# Altium footprint library Bridge Rectifiers.PcbLib: 37 footprints (part 3 of 3)
Each footprint in its own frame and in the unit in brackets; x right, y up, seen from the top. Pads: shape width x height; smd on the part's side, far side on the other; paste and mask are expansions set on the pad; w line width, h text height; cw(c..) or ccw(c..) is an arc to the next point about the centre after c.
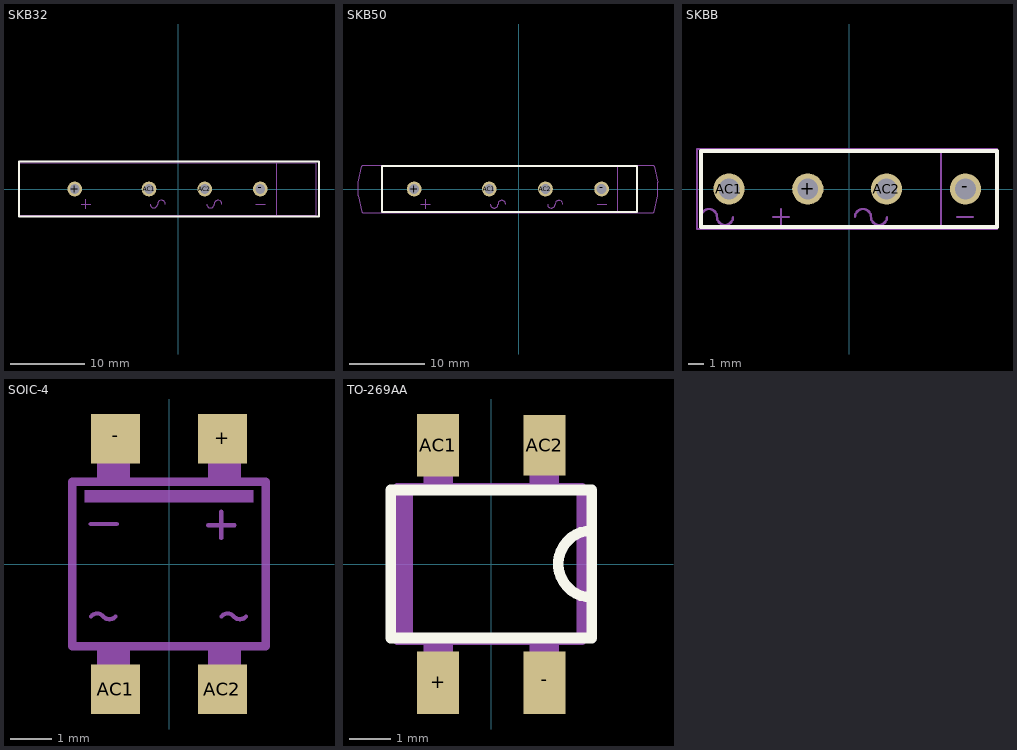
[diagram p2: the footprints below, top view; thin cyan lines are the x and y axes]

## SKB32 [mil]
pads (4):
  round 78 / inner round 60 / far side round 78 hole 52: +(-550,0) -(434,0) AC1(-156,0) AC2(139,0)
Top Overlay:
  lines w10: -845,-145 -845,145 745,145 745,-145 -845,-145
Mechanical 22:
  lines w6: -515,-80 -465,-80 ; -490,-105 -490,-55 ; -150,-80 ccw(c-130,-80) -110,-80 cw(c-90,-80) -70,-80 ; 150,-80 ccw(c170,-80) 190,-80 cw(c210,-80) 230,-80 ; 410,-80 460,-80 ; 520,-140 730,-140 730,140 520,140 ; 520,-140 520,140 ; 520,-140 -845,-140 -845,140 520,140

## SKB50 [mil]
pads (4):
  round 78 / inner round 60 / far side round 78 hole 52: +(-550,0) -(434,0) AC1(-156,0) AC2(139,0)
Top Overlay:
  lines w10: -720,-120 620,-120 620,120 -720,120 -720,-120
Mechanical 22:
  lines w6: -515,-80 -465,-80 ; -490,-105 -490,-55 ; -150,-80 ccw(c-130,-80) -110,-80 cw(c-90,-80) -70,-80 ; 150,-80 ccw(c170,-80) 190,-80 cw(c210,-80) 230,-80 ; 410,-80 460,-80 ; 520,-125 520,125 ; 520,-125 705,-125 710,-120 730,-35 730,35 710,120 705,125 520,125 ; 520,-125 -820,-125 -825,-120 -845,-35 -845,35 -825,120 -820,125 520,125

## SKBB [mil]
pads (4):
  round 78 / inner round 60 / far side round 78 hole 52: +(-103,0) -(291,0) AC1(-300,0) AC2(94,0)
Top Overlay:
  lines w10: -370,-95 370,-95 370,95 -370,95 -370,-95
Mechanical 22:
  lines w6: -370,-70 cw(c-350,-70) -330,-70 ccw(c-310,-70) -290,-70 ; -190,-70 -150,-70 ; -170,-90 -170,-50 ; 15,-70 cw(c35,-70) 55,-70 ccw(c75,-70) 95,-70 ; 270,-70 310,-70 ; 230,-100 -380,-100 -380,100 230,100 ; 230,-100 230,100 ; 230,-100 370,-100 370,100 230,100

## SOIC-4 [mil]
pads (4):
  rect 47.24x47.24 smd: +(51.18,120.08) -(-51.18,120.08) AC1(-51.18,-120.08) AC2(51.18,-120.08)
Mechanical 8:
  region: -37.4,-80.71 -37.4,-135.83 -68.9,-135.83 -68.9,-80.71
  region: 68.9,-80.71 68.9,-135.83 37.4,-135.83 37.4,-80.71
  region: 37.4,80.71 37.4,135.83 68.9,135.83 68.9,80.71
  region: -68.9,80.71 -68.9,135.83 -37.4,135.83 -37.4,80.71
Mechanical 22:
  region: -80.71,59.06 -80.71,70.87 80.71,70.87 80.71,59.06
  lines w4: -75,38.19 -50,38.19 ; -74.8,-50.2 cw(c-68.89,-55.16) -62.99,-50.2 ccw(c-57.09,-45.24) -51.18,-50.2 ; 37.6,37.2 62.6,37.2 ; 50,25 50,50 ; 50.2,-50.2 cw(c56.1,-55.16) 62.01,-50.2 ccw(c67.92,-45.24) 73.82,-50.2
  lines w8: -92.52,-78.74 -92.52,78.74 92.52,78.74 92.52,-78.74 -92.52,-78.74
3D body "SOP254P665X290.step": height 114.17, standoff 0.11, extent -97.43,-131.6 97.45,131.61
3D body: height 97.44, standoff -97.44, extent -10,-25 -10,-25

## TO-269AA [mm]
pads (4):
  rect 1x1.5 smd: +(-1.28,-2.855) -(1.28,-2.855) AC1(-1.28,2.855)
  rect 1x1.45 smd: AC2(1.28,2.855)
Top Overlay:
  lines w0.254: 2.413,-0.803 cw(c2.413,0) 2.413,0.803 ; -2.413,-1.778 -2.413,1.778 2.413,1.778 2.413,-1.778 -2.413,-1.778
Mechanical 8:
  region: -0.925,3.25 -0.925,1.93 -1.625,1.93 -1.625,3.25
  region: 1.625,3.25 1.625,1.93 0.925,1.93 0.925,3.25
  region: 0.925,-3.25 0.925,-1.93 1.625,-1.93 1.625,-3.25
  region: -1.625,-3.25 -1.625,-1.93 -0.925,-1.93 -0.925,-3.25
Mechanical 22:
  lines w0.254: -2.01,1.825 -2.01,-1.825 ; -2.01,-1.825 -2.25,-1.825 -2.25,1.825 2.175,1.825 2.175,-1.825 -2.01,-1.825
3D body "TO-269AA.step": height 2.7, standoff 0, extent -2.475,-3.52 2.475,3.52